# EAGLE library part AD7887 (library 50w-modular-psu)
+2.7 V to +5.25 V, Micropower, 2-Channel, 125 kSPS, 12-Bit ADC in 8-Lead µSOIC GENERAL DESCRIPTION The AD7887 is a high speed, low power, 12-bit ADC that oper- ates from a single +2.7 V to +5.25 V power supply. The AD7887 is capable of 125 kSPS throughput rate. The input track-and- hold acquires a signal in 500 ns and features a single-ended sampling scheme. The output coding for the AD7887 is straight binary and the part is capable of converting full power signals up to 2.5 MHz.
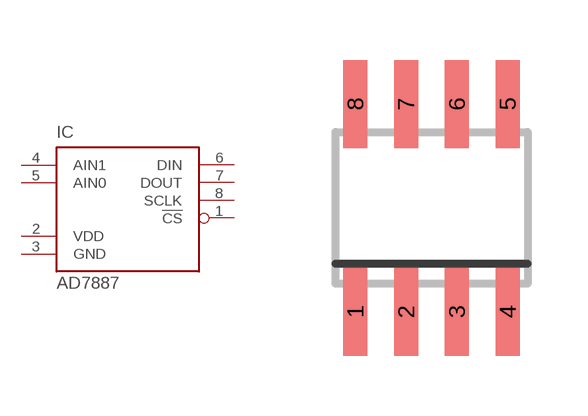
[diagram p3: symbol with the pads of SO08; footprint SO08]

Designator prefix IC

## AD7887ARZ  [SO08]
1  !CS  in
2  VDD  pwr
3  GND  pwr
4  AIN1  in
5  AIN0  in
6  DIN  in
7  DOUT  out
8  SCLK  in

## Footprint SO08 (pad centres in mm)
Small Outline Package 8 NS Package M08A
smd 0.6 x 2.2: 1 -1.905,-2.6; 2 -0.635,-2.6; 3 0.635,-2.6; 4 1.905,-2.6; 5 1.905,2.6; 6 0.635,2.6; 7 -0.635,2.6; 8 -1.905,2.6